# Altium schematic symbol library Capacitor.SchLib: 5 symbols
Pins are listed as number, name and electrical type; pins without a type are passive.

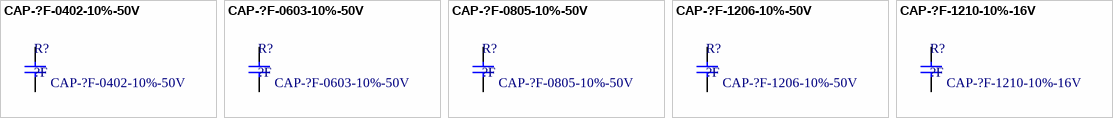
[diagram p0: symbols CAP-?F-0402-10%-50V to CAP-?F-1210-10%-16V]

## CAP-?F-0402-10%-50V
designator R?, comment ?F
CAP-?F-0402-10%-50V; Manufacturer: Yageo; Note: SMT; Package: 0402 (1005 Metric); Supplier: tme.vn; Value: ?F; Unit Price: 0; Stock Description: CAP-?F-0402-10%-50V
footprint C 0402 (Chip Capacitor, 2-Leads, Body 1.0x0.5mm, IPC Medium Density)
pins: 1, 2

## CAP-?F-0603-10%-50V
designator R?, comment ?F
CAP-?F-0603-10%-50V; Manufacturer: Yageo; Note: SMT; Package: 0603 (1608 Metric); Supplier: tme.vn; Value: ?F; Unit Price: 0; Stock Description: CAP-?F-0603-10%-50V
footprint C 0603 (Chip Capacitor, 2-Leads, Body 1.6x0.8mm, IPC Medium Density)
pins: 1, 2

## CAP-?F-0805-10%-50V
designator R?, comment ?F
CAP-?F-0805-10%-50V; Manufacturer: Yageo; Note: SMT; Package: 0805 (2012 Metric); Supplier: tme.vn; Value: ?F; Unit Price: 0; Stock Description: CAP-?F-0805-10%-50V
footprint C 0805 (Chip Capacitor, 2-Leads, Body 2.0x1.3mm, IPC Medium Density)
pins: 1, 2

## CAP-?F-1206-10%-50V
designator R?, comment ?F
CAP-?F-1206-10%-50V; Manufacturer: Yageo; Note: SMT; Package: 1206 (3216 Metric); Supplier: tme.vn; Value: ?F; Unit Price: 0; Stock Description: CAP-?F-1206-10%-50V
footprint C 1206
pins: 1, 2

## CAP-?F-1210-10%-16V
designator R?, comment ?F
CAP-?F-1210-10%-16V; Manufacturer: Yageo; Note: SMT; Package: 1210 (3225 Metric); Supplier: tme.vn; Value: ?F; Unit Price: 0; Stock Description: CAP-?F-1210-10%-16V
footprint R 1210 (Chip Resistor, 2-Leads, Body 3.2x2.5mm, IPC Medium Density)
pins: 1, 2